# Altium schematic symbol library LCD_16x2.SchLib: 2 symbols
Pins are listed as number, name and electrical type; pins without a type are passive.

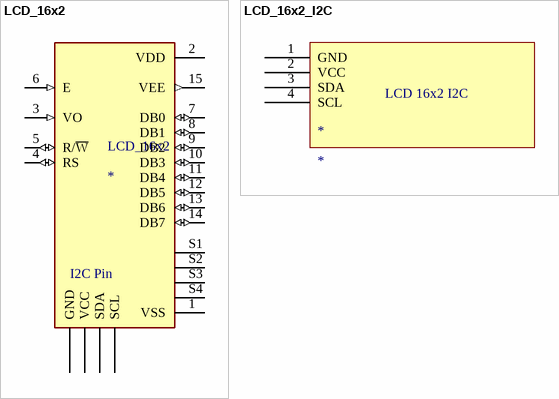
[diagram p0: symbols LCD_16x2 to LCD_16x2_I2C]

## LCD_16x2
designator LCD_16x2
Display: LCD; alphanumeric; STN Negative; 16x2; blue; LED; PIN: 16; MP: RC1602B-BIW-CSV; Price: None; Value: *; Availability: Unavailable; Package: None
footprint LCD_16x2
pins: 1 VSS (power), 2 VDD (power), 3 VO (in), 4 RS (io), 5 R/~{W} (io), 6 E (in), 7 DB0 (io), 8 DB1 (io), 9 DB2 (io), 10 DB3 (io), 11 DB4 (io), 12 DB5 (io), 13 DB6 (io), 14 DB7 (io), 15 VEE (out), GND, S1 SHIELD, S2 SHIELD, S3 SHIELD, S4 SHIELD, SCL, SDA, VCC
text: I2C Pin

## LCD_16x2_I2C
designator *
footprint LCD_16x2_I2C
pins: 1 GND, 2 VCC, 3 SDA, 4 SCL
text: LCD 16x2 I2C